# EAGLE library part RF (library Arduino_Board)
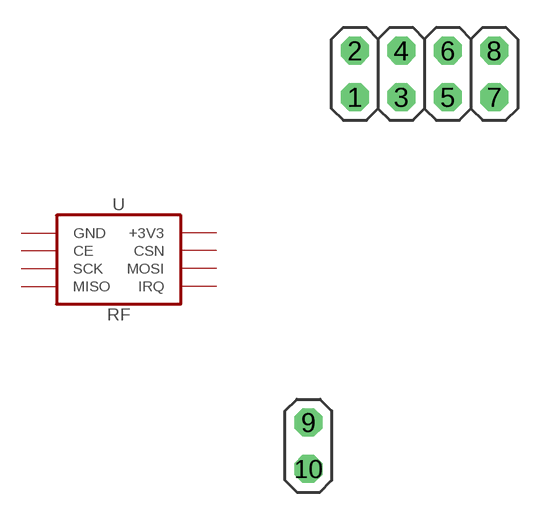
[diagram p0: symbol with the pads of RF; footprint RF]

Designator prefix -

## RF  [RF]
1  GND  pas
2  +3V3  pas
3  CE  pas
4  CSN  pas
5  SCK  pas
6  MOSI  pas
7  MISO  pas
8  IRQ  pas

## Footprint RF (pad centres in mm)
drill 1.016 octagon: 1 -3.81,-1.27; 2 -3.81,1.27; 3 -1.27,-1.27; 4 -1.27,1.27; 5 1.27,-1.27; 6 1.27,1.27; 7 3.81,-1.27; 8 3.81,1.27; 9 -6.35,-19.05; 10 -6.35,-21.59